# Altium schematic symbol library A5.SchLib: 53 symbols
Pins are listed as number, name and electrical type; pins without a type are passive.

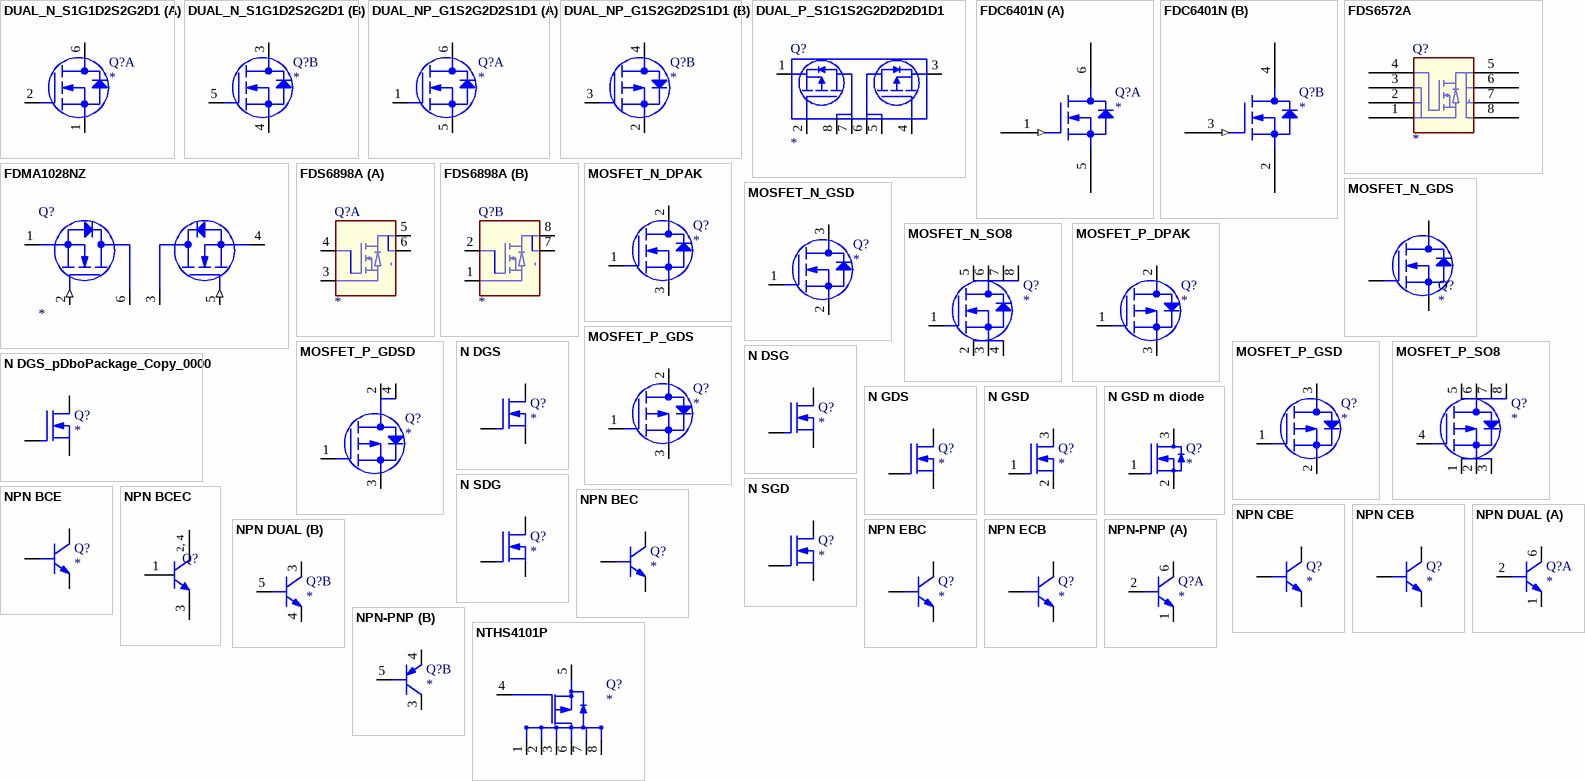
[diagram p0: symbols DUAL_N_S1G1D2S2G2D1 to NTHS4101P]

## DUAL_N_S1G1D2S2G2D1
designator Q?
Status: New
part A pins: 1 S, 2 G, 6 D
part B pins: 3 D, 4 S, 5 G

## DUAL_NP_G1S2G2D2S1D1
designator Q?
Status: New
part A pins: 1 G, 5 S, 6 D
part B pins: 2 S, 3 G, 4 D

## DUAL_P_S1G1S2G2D2D2D1D1
designator Q?
Status: New
pins: 1 S1, 2 G1, 3 S2, 4 G2, 5 D2B, 6 D2A, 7 D1B, 8 D1A

## FDC6401N
designator Q?
Status: New
part A pins: 1 G1 (in), 5 S1 (oe), 6 D1 (oc)
part B pins: 2 S1 (oe), 3 G1 (in), 4 D1 (oc)

## FDMA1028NZ
designator Q?
Status: Active; Verified by: iwalberg; Verified date: 25.07.2007
pins: 1 S1 (io), 2 G1 (in), 3 D2 (io), 4 S2 (io), 5 G2 (in), 6 D1 (io)

## FDS6572A
designator Q?
Verified date: 31.07.2006; Verified by: Sveinung Helgeland; Status: Active
footprint SO8
pins: 1 S, 2 S, 3 S, 4 G, 5 D, 6 D, 7 D, 8 D

## FDS6898A
designator Q?
Status: Active; Verified date: 02.08.2006; Verified by: Sveinung Helgeland
part A pins: 3 S, 4 G, 5 D, 6 D
part B pins: 1 S, 2 G, 7 D, 8 D

## MOSFET_N_DPAK
designator Q?
Status: New
pins: 1 G, 2 D, 3 S

## MOSFET_N_GDS
designator Q?
Status: New
pins: 1 G, 2 D, 3 S

## MOSFET_N_GSD
designator Q?
Status: New
pins: 1 G, 2 S, 3 D

## MOSFET_N_SO8
designator Q?
Status: New
pins: 1 G1, 2 S1, 3 S2, 4 S3, 5 D1, 6 D2, 7 D3, 8 D4

## MOSFET_P_DPAK
designator Q?
Status: New
pins: 1 G, 2 D, 3 S

## MOSFET_P_GDS
designator Q?
Status: New
pins: 1 G, 2 D, 3 S

## MOSFET_P_GDSD
designator Q?
Status: New
pins: 1 G, 2 D, 3 S, 4 D

## MOSFET_P_GSD
designator Q?
Status: New
pins: 1 G, 2 S, 3 D

## MOSFET_P_SO8
designator Q?
Status: New
pins: 1 S1, 2 S2, 3 S3, 4 G1, 5 D1, 6 D2, 7 D3, 8 D4

## N DGS
designator Q?
Status: New
pins: 1 D, 2 G, 3 S

## N DGS_pDboPackage_Copy_0000
designator Q?
Status: New
pins: 1 D, 2 G, 3 S

## N DSG
designator Q?
Status: New
pins: 1 D, 2 S, 3 G

## N GDS
designator Q?
Status: New
pins: 1 G, 2 D, 3 S

## N GSD
designator Q?
Status: Active; Verified by: Ketil Skjerve; Verified date: 2006-05-26
pins: 1 G, 2 S, 3 D

## N GSD m diode
designator Q?
Verified date: 2006-05-26; Verified by: Ketil Skjerve; Status: Active
pins: 1 G, 2 S, 3 D

## N SDG
designator Q?
Status: New
pins: 1 S, 2 D, 3 G

## N SGD
designator Q?
Status: New
pins: 1 S, 2 G, 3 D

## NPN BCE
designator Q?
Status: New
pins: 1 B, 2 C, 3 E

## NPN BCEC
designator Q?  (value not drawn)
Value: *
pins: 1 B, 2 C, 3 E, 4 C
text: 2, 4

## NPN BEC
designator Q?
Status: Active; Verified by: rmeslo; Verified date: 20.02.06
pins: 1 B, 2 E, 3 C

## NPN CBE
designator Q?
Status: New
pins: 1 C, 2 B, 3 E

## NPN CEB
designator Q?
Status: New
pins: 1 C, 2 E, 3 B

## NPN DUAL
designator Q?
Status: Active
part A pins: 1 E, 2 B, 6 C
part B pins: 3 C, 4 E, 5 B

## NPN EBC
designator Q?
Status: New
pins: 1 E, 2 B, 3 C

## NPN ECB
designator Q?
Status: New
pins: 1 E, 2 C, 3 B

## NPN-PNP
designator Q?
Verified date: 2006-04-03; Verified by: Lars Helge Mo; Status: Active
part A pins: 1 E, 2 B, 6 C
part B pins: 3 C, 4 E, 5 B

## NTHS4101P
designator Q?
Verified date: 18.09.2006; Verified by: Sveinung Helgeland; Status: Active
pins: 1 D, 2 D, 3 D, 4 G, 5 S, 6 D, 7 D, 8 D

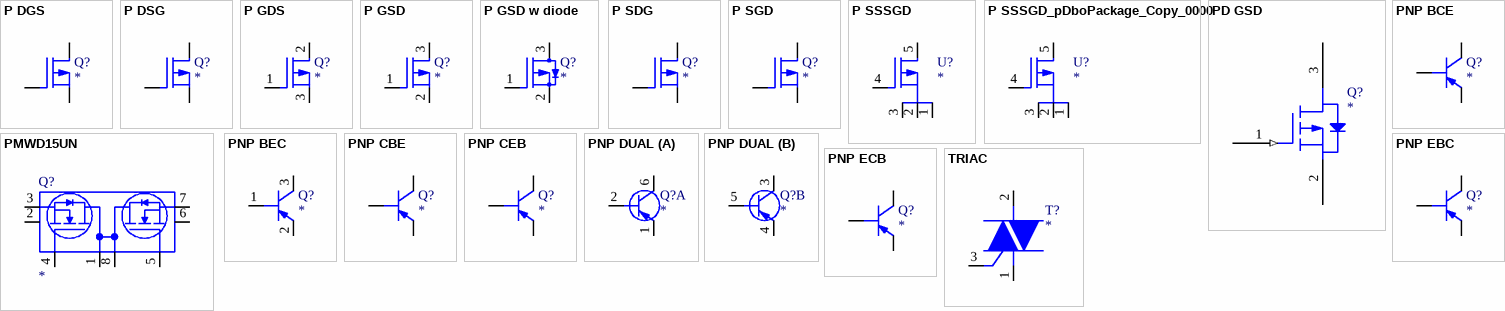
[diagram p1: symbols P DGS to TRIAC]

## P DGS
designator Q?
Status: New
pins: 1 D, 2 G, 3 S

## P DSG
designator Q?
Status: New
pins: 1 D, 2 S, 3 G

## P GDS
designator Q?
Status: Active; Verified by: Ketil Skjerve; Verified date: 2006-04-19
pins: 1 G, 2 D, 3 S

## P GSD
designator Q?
Status: Active; Verified by: Ketil Skjerve; Verified date: 2006-04-04
pins: 1 G, 2 S, 3 D

## P GSD w diode
designator Q?
Status: Active; Verified by: Ketil Skjerve; Verified date: 2006-04-04
pins: 1 G, 2 S, 3 D

## P SDG
designator Q?
Status: New
pins: 1 S, 2 D, 3 G

## P SGD
designator Q?
Status: New
pins: 1 S, 2 G, 3 D

## P SSSGD
designator U?
Status: New
pins: 1 S1, 2 S2, 3 S3, 4 G, 5 D

## P SSSGD_pDboPackage_Copy_0000
designator U?
Status: New
pins: 1 S1, 2 S2, 3 S3, 4 G, 5 D

## PD GSD
designator Q?
Verified date: 2006-04-21; Verified by: Ketil Skjerve; Status: Active
pins: 1 G (in), 2 S (oe), 3 D (oc)

## PMWD15UN
designator Q?
Status: New
pins: 1 D1, 2 S1A, 3 S1B, 4 G1, 5 G2, 6 S2A, 7 S2B, 8 D2

## PNP BCE
designator Q?
Status: New
pins: 1 B, 2 C, 3 E

## PNP BEC
designator Q?
Status: Active; Verified by: Ketil Skjerve; Verified date: 2006-06-28
pins: 1 B, 2 E, 3 C

## PNP CBE
designator Q?
Status: New
pins: 1 C, 2 B, 3 E

## PNP CEB
designator Q?
Status: New
pins: 1 C, 2 E, 3 B

## PNP DUAL
designator Q?
Status: Active
part A pins: 1 E, 2 B, 6 C
part B pins: 3 C, 4 E, 5 B

## PNP EBC
designator Q?
Status: New
pins: 1 E, 2 B, 3 C

## PNP ECB
designator Q?
Status: New
pins: 1 E, 2 C, 3 B

## TRIAC
designator T?
Status: New
pins: 1 Com, 2 Out, 3 G